# EAGLE library part STM32_BLACK_PILL (library custom)
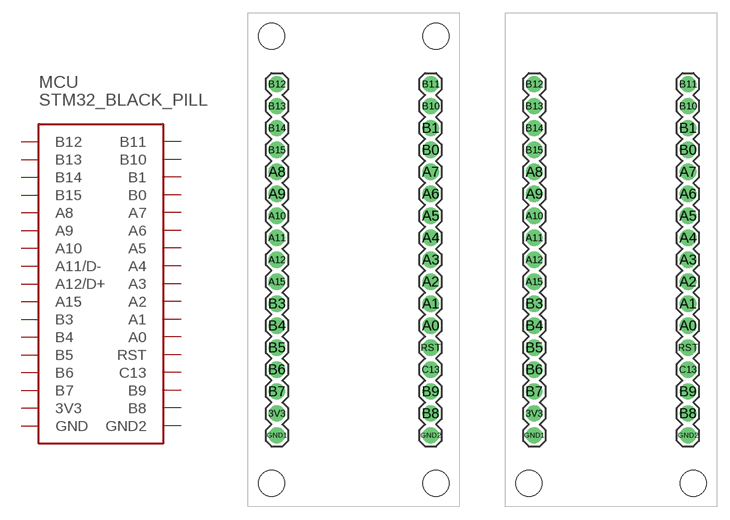
[diagram p134: symbol with the pads of STM32_BLACK_PILL; footprints STM32_BLACK_PILL, STM32_BLACK_PILL_BOT]

Designator prefix MCU

## STM32_BLACK_PILLALLH  [STM32_BLACK_PILL]
3V3  3V3
A0  A0
A1  A1
A2  A2
A3  A3
A4  A4
A5  A5
A6  A6
A7  A7
A8  A8
A9  A9
A10  A10
A11  A11/D-
A12  A12/D+
A15  A15
B0  B0
B1  B1
B3  B3
B4  B4
B5  B5
B6  B6
B7  B7
B8  B8
B9  B9
B10  B10
B11  B11
B12  B12
B13  B13
B14  B14
B15  B15
C13  C13
GND1  GND
GND2  GND2
RST  RST

## STM32_BLACK_PILL  [STM32_BLACK_PILL_BOT]
Pads as for STM32_BLACK_PILL

## Footprint STM32_BLACK_PILL (pad centres in mm)
drill 1.016 pad 1.88: 3V3 -8.89,-17.78; A0 8.89,-7.62; A1 8.89,-5.08; A2 8.89,-2.54; A3 8.89,0; A4 8.89,2.54; A5 8.89,5.08; A6 8.89,7.62; A7 8.89,10.16; A8 -8.89,10.16; A9 -8.89,7.62; A10 -8.89,5.08; A11 -8.89,2.54; A12 -8.89,0; A15 -8.89,-2.54; B0 8.89,12.7; B1 8.89,15.24; B3 -8.89,-5.08; B4 -8.89,-7.62; B5 -8.89,-10.16; B6 -8.89,-12.7; B7 -8.89,-15.24; B8 8.89,-17.78; B9 8.89,-15.24; B10 8.89,17.78; B11 8.89,20.32; B12 -8.89,20.32; B13 -8.89,17.78; B14 -8.89,15.24; B15 -8.89,12.7; C13 8.89,-12.7; GND1 -8.89,-20.32; GND2 8.89,-20.32; RST 8.89,-10.16
hole 3 at -9.5,25.85
hole 3 at 9.5,25.85
hole 3 at -9.5,-25.85
hole 3 at 9.5,-25.85

## Footprint STM32_BLACK_PILL_BOT (pad centres in mm)
drill 1.016 pad 1.88: 3V3 -8.89,-19.05; A0 8.89,-8.89; A1 8.89,-6.35; A2 8.89,-3.81; A3 8.89,-1.27; A4 8.89,1.27; A5 8.89,3.81; A6 8.89,6.35; A7 8.89,8.89; A8 -8.89,8.89; A9 -8.89,6.35; A10 -8.89,3.81; A11 -8.89,1.27; A12 -8.89,-1.27; A15 -8.89,-3.81; B0 8.89,11.43; B1 8.89,13.97; B3 -8.89,-6.35; B4 -8.89,-8.89; B5 -8.89,-11.43; B6 -8.89,-13.97; B7 -8.89,-16.51; B8 8.89,-19.05; B9 8.89,-16.51; B10 8.89,16.51; B11 8.89,19.05; B12 -8.89,19.05; B13 -8.89,16.51; B14 -8.89,13.97; B15 -8.89,11.43; C13 8.89,-13.97; GND1 -8.89,-21.59; GND2 8.89,-21.59; RST 8.89,-11.43
hole 3 at -9.5,-27.12
hole 3 at 9.5,-27.12